# Altium integrated library Linear Technology Power Management Hot Swap Controllers.IntLib: 992 symbols (part 28 of 93)
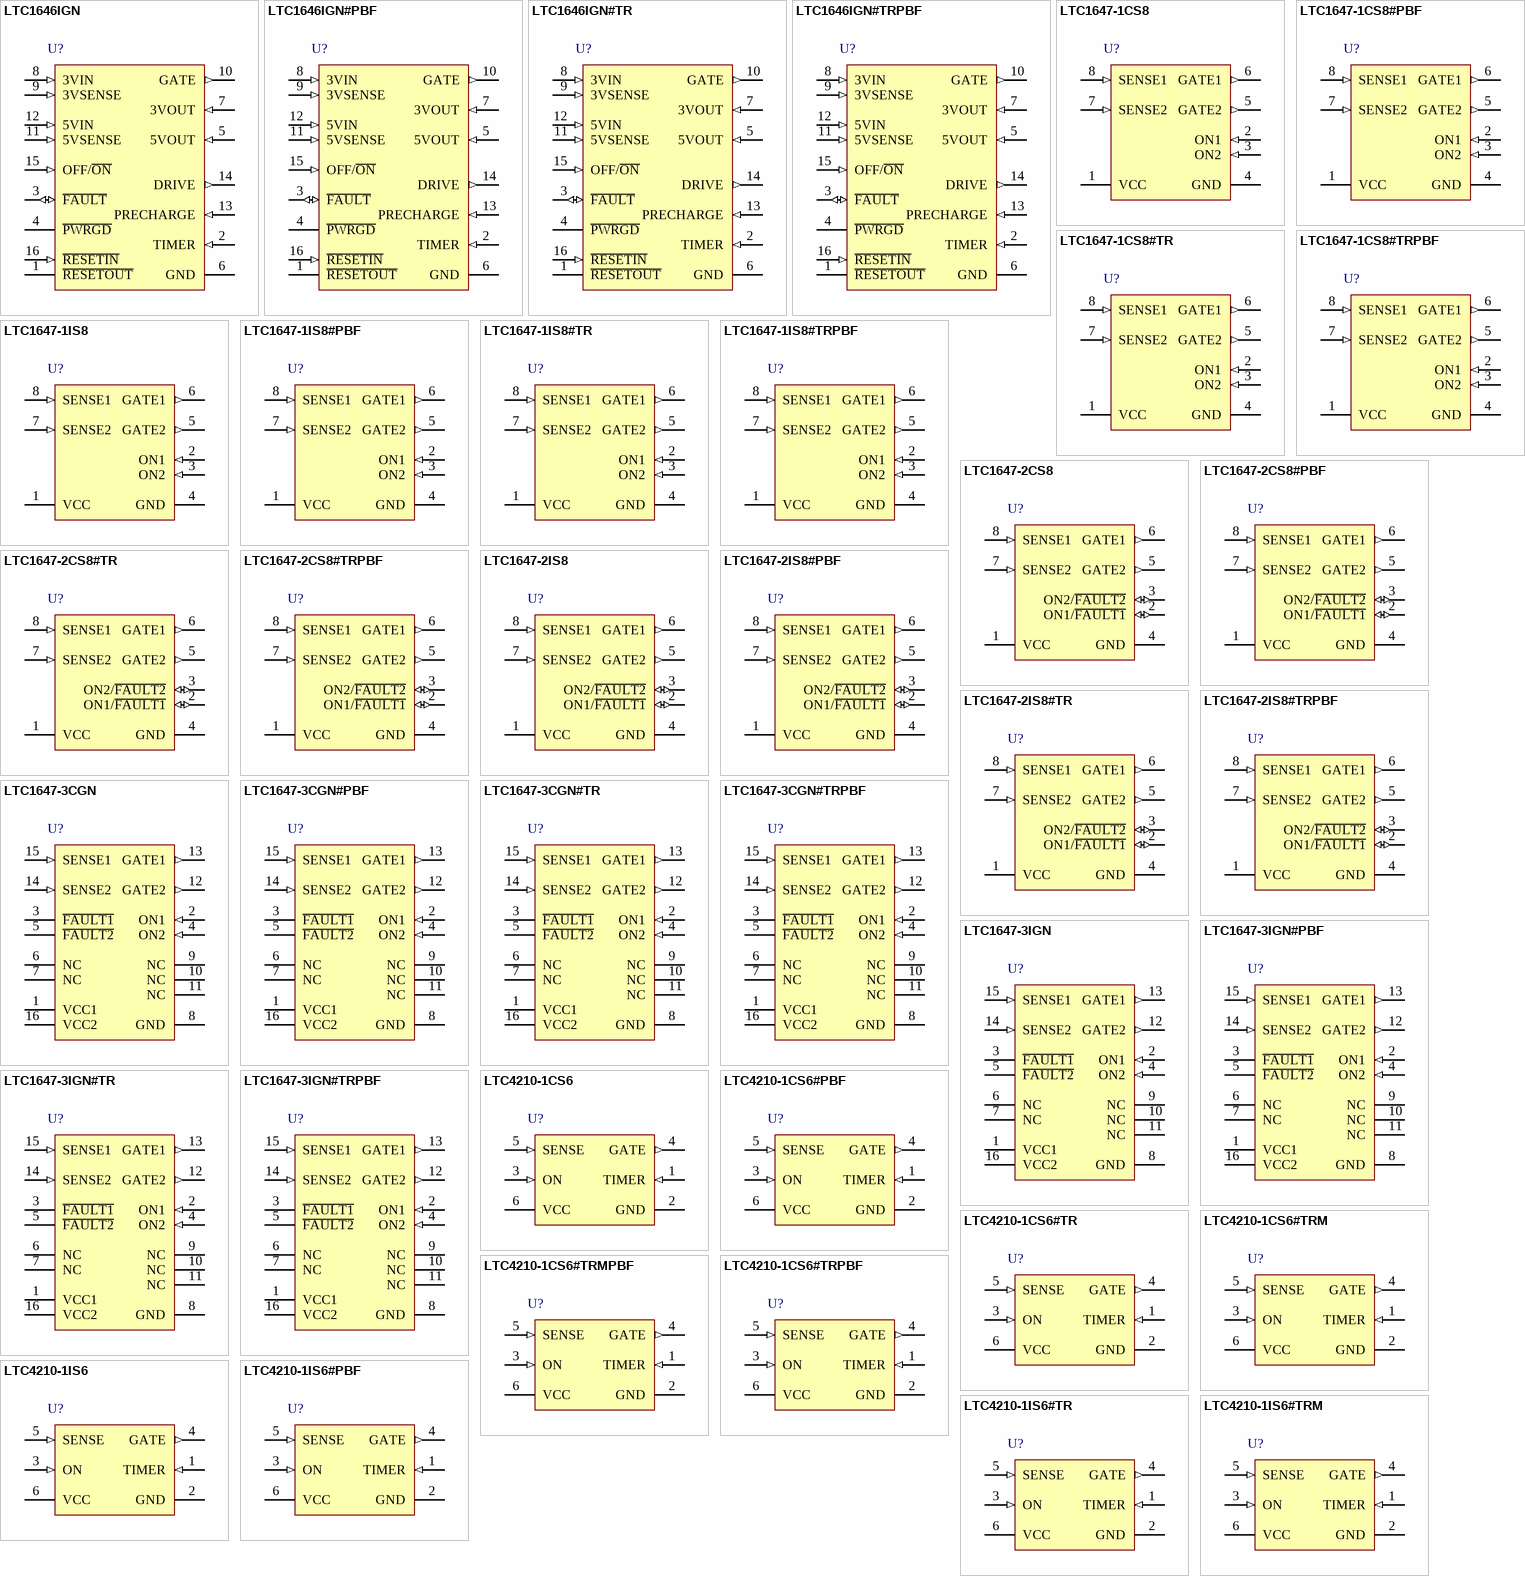
[diagram p64: symbols LTC1646IGN to LTC4210-1IS6#TRM]

## LTC1647-2CS8#TRPBF
designator U?
Dual Hot Swap Controller, 2.7 to 16.5 V Vin, 8-pin SOIC (S8-8), 0 to 70 degC, Pb-Free, Tape and Reel; Manufacturer: Linear Technology; PartNumber: LTC1647-2CS8#TRPBF; Active Limiting: no; Circuit Breaker Accuracy(%): 20; Circuit Breaker Threshold: 50 mV; Circuit Breakers(#): 2; Extended Temp: C, I; Fault: yes; In-Rush Current: Ramp; DatasheetVersion: Rev. A; PackageVersion: Rev. G, 03/2012; PackageReference: S8-8; PackageDescription: 8-Pin Plastic Small Outline (Narrow .150 Inch), Body 4.9 x 3.9 mm, Pitch 1.27 mm; Supplier 1: Digi-Key; Supplier Part Number 1: LTC1647-2CS8#TRPBF-ND; Fast Comparator: no; Foldback: no; Packing: Tape and Reel; Power Good: no; Reset: no; RoHS: TRUE; Vin Range: 2.7 to 16.5 V; Mounting Technology: Surface Mount; ComponentLink1Description: Manufacturer URL; ComponentLink1URL: http://www.linear.com/; ComponentLink2Description: Datasheet; ComponentLink2URL: http://cds.linear.com/docs/en/datasheet/1647fa.pdf; ComponentLink3Description: Package Specification; ComponentLink3URL: http://cds.linear.com/docs/en/packaging/05081610_G_SO8.pdf
footprint LT-S8-8_N (SOIC, 8-Leads, Body 5x4mm, Pitch 1.27mm, IPC Medium Density)
footprint LT-S8-8_L (SOIC, 8-Leads, Body 5x4mm, Pitch 1.27mm, IPC High Density)
footprint LT-S8-8_M (SOIC, 8-Leads, Body 5x4mm, Pitch 1.27mm, IPC Low Density)
pins: 1 VCC (power) "The Common Positive Supply Input for the LTC1647-2. VCC1 and VCC2 are internally connected together.", 2 ON1/~{FAULT1} (io), 3 ON2/~{FAULT2} (io), 4 GND (power) "Chip Ground", 5 GATE2 (out) "Channel 2 N-channel MOSFET Gate Drive Output.", 6 GATE1 (out) "Channel 1 N-channel MOSFET Gate Drive Output.", 7 SENSE2 (in) "Channel 2 Circuit Breaker Current Sense Input.", 8 SENSE1 (in) "Channel 1 Circuit Breaker Current Sense Input."

## LTC1647-2IS8
designator U?
Dual Hot Swap Controller, 2.7 to 16.5 V Vin, 8-pin SOIC (S8-8), -40 to 85 degC; Manufacturer: Linear Technology; PartNumber: LTC1647-2IS8; Active Limiting: no; Circuit Breaker Accuracy(%): 20; Circuit Breaker Threshold: 50 mV; Circuit Breakers(#): 2; Extended Temp: C, I; Fault: yes; In-Rush Current: Ramp; DatasheetVersion: Rev. A; PackageVersion: Rev. G, 03/2012; PackageReference: S8-8; PackageDescription: 8-Pin Plastic Small Outline (Narrow .150 Inch), Body 4.9 x 3.9 mm, Pitch 1.27 mm; Supplier 1: Digi-Key; Supplier Part Number 1: LTC1647-2IS8-ND; Fast Comparator: no; Foldback: no; Power Good: no; Reset: no; RoHS: FALSE; Vin Range: 2.7 to 16.5 V; Mounting Technology: Surface Mount; ComponentLink1Description: Manufacturer URL; ComponentLink1URL: http://www.linear.com/; ComponentLink2Description: Datasheet; ComponentLink2URL: http://cds.linear.com/docs/en/datasheet/1647fa.pdf; ComponentLink3Description: Package Specification; ComponentLink3URL: http://cds.linear.com/docs/en/packaging/05081610_G_SO8.pdf
footprint LT-S8-8_N (SOIC, 8-Leads, Body 5x4mm, Pitch 1.27mm, IPC Medium Density)
footprint LT-S8-8_L (SOIC, 8-Leads, Body 5x4mm, Pitch 1.27mm, IPC High Density)
footprint LT-S8-8_M (SOIC, 8-Leads, Body 5x4mm, Pitch 1.27mm, IPC Low Density)
pins: 1 VCC (power) "The Common Positive Supply Input for the LTC1647-2. VCC1 and VCC2 are internally connected together.", 2 ON1/~{FAULT1} (io), 3 ON2/~{FAULT2} (io), 4 GND (power) "Chip Ground", 5 GATE2 (out) "Channel 2 N-channel MOSFET Gate Drive Output.", 6 GATE1 (out) "Channel 1 N-channel MOSFET Gate Drive Output.", 7 SENSE2 (in) "Channel 2 Circuit Breaker Current Sense Input.", 8 SENSE1 (in) "Channel 1 Circuit Breaker Current Sense Input."

## LTC1647-2IS8#PBF
designator U?
Dual Hot Swap Controller, 2.7 to 16.5 V Vin, 8-pin SOIC (S8-8), -40 to 85 degC, Pb-Free; Manufacturer: Linear Technology; PartNumber: LTC1647-2IS8#PBF; Active Limiting: no; Circuit Breaker Accuracy(%): 20; Circuit Breaker Threshold: 50 mV; Circuit Breakers(#): 2; Extended Temp: C, I; Fault: yes; In-Rush Current: Ramp; DatasheetVersion: Rev. A; PackageVersion: Rev. G, 03/2012; PackageReference: S8-8; PackageDescription: 8-Pin Plastic Small Outline (Narrow .150 Inch), Body 4.9 x 3.9 mm, Pitch 1.27 mm; Supplier 1: Digi-Key; Supplier Part Number 1: LTC1647-2IS8#PBF-ND; Fast Comparator: no; Foldback: no; Power Good: no; Reset: no; RoHS: TRUE; Vin Range: 2.7 to 16.5 V; Mounting Technology: Surface Mount; ComponentLink1Description: Manufacturer URL; ComponentLink1URL: http://www.linear.com/; ComponentLink2Description: Datasheet; ComponentLink2URL: http://cds.linear.com/docs/en/datasheet/1647fa.pdf; ComponentLink3Description: Package Specification; ComponentLink3URL: http://cds.linear.com/docs/en/packaging/05081610_G_SO8.pdf
footprint LT-S8-8_N (SOIC, 8-Leads, Body 5x4mm, Pitch 1.27mm, IPC Medium Density)
footprint LT-S8-8_L (SOIC, 8-Leads, Body 5x4mm, Pitch 1.27mm, IPC High Density)
footprint LT-S8-8_M (SOIC, 8-Leads, Body 5x4mm, Pitch 1.27mm, IPC Low Density)
pins: 1 VCC (power) "The Common Positive Supply Input for the LTC1647-2. VCC1 and VCC2 are internally connected together.", 2 ON1/~{FAULT1} (io), 3 ON2/~{FAULT2} (io), 4 GND (power) "Chip Ground", 5 GATE2 (out) "Channel 2 N-channel MOSFET Gate Drive Output.", 6 GATE1 (out) "Channel 1 N-channel MOSFET Gate Drive Output.", 7 SENSE2 (in) "Channel 2 Circuit Breaker Current Sense Input.", 8 SENSE1 (in) "Channel 1 Circuit Breaker Current Sense Input."

## LTC1647-2IS8#TR
designator U?
Dual Hot Swap Controller, 2.7 to 16.5 V Vin, 8-pin SOIC (S8-8), -40 to 85 degC, Tape and Reel; Manufacturer: Linear Technology; PartNumber: LTC1647-2IS8#TR; Active Limiting: no; Circuit Breaker Accuracy(%): 20; Circuit Breaker Threshold: 50 mV; Circuit Breakers(#): 2; Extended Temp: C, I; Fault: yes; In-Rush Current: Ramp; DatasheetVersion: Rev. A; PackageVersion: Rev. G, 03/2012; PackageReference: S8-8; PackageDescription: 8-Pin Plastic Small Outline (Narrow .150 Inch), Body 4.9 x 3.9 mm, Pitch 1.27 mm; Supplier 1: Digi-Key; Supplier Part Number 1: LTC1647-2IS8#TR-ND; Fast Comparator: no; Foldback: no; Packing: Tape and Reel; Power Good: no; Reset: no; RoHS: FALSE; Vin Range: 2.7 to 16.5 V; Mounting Technology: Surface Mount; ComponentLink1Description: Manufacturer URL; ComponentLink1URL: http://www.linear.com/; ComponentLink2Description: Datasheet; ComponentLink2URL: http://cds.linear.com/docs/en/datasheet/1647fa.pdf; ComponentLink3Description: Package Specification; ComponentLink3URL: http://cds.linear.com/docs/en/packaging/05081610_G_SO8.pdf
footprint LT-S8-8_N (SOIC, 8-Leads, Body 5x4mm, Pitch 1.27mm, IPC Medium Density)
footprint LT-S8-8_L (SOIC, 8-Leads, Body 5x4mm, Pitch 1.27mm, IPC High Density)
footprint LT-S8-8_M (SOIC, 8-Leads, Body 5x4mm, Pitch 1.27mm, IPC Low Density)
pins: 1 VCC (power) "The Common Positive Supply Input for the LTC1647-2. VCC1 and VCC2 are internally connected together.", 2 ON1/~{FAULT1} (io), 3 ON2/~{FAULT2} (io), 4 GND (power) "Chip Ground", 5 GATE2 (out) "Channel 2 N-channel MOSFET Gate Drive Output.", 6 GATE1 (out) "Channel 1 N-channel MOSFET Gate Drive Output.", 7 SENSE2 (in) "Channel 2 Circuit Breaker Current Sense Input.", 8 SENSE1 (in) "Channel 1 Circuit Breaker Current Sense Input."

## LTC1647-2IS8#TRPBF
designator U?
Dual Hot Swap Controller, 2.7 to 16.5 V Vin, 8-pin SOIC (S8-8), -40 to 85 degC, Pb-Free, Tape and Reel; Manufacturer: Linear Technology; PartNumber: LTC1647-2IS8#TRPBF; Active Limiting: no; Circuit Breaker Accuracy(%): 20; Circuit Breaker Threshold: 50 mV; Circuit Breakers(#): 2; Extended Temp: C, I; Fault: yes; In-Rush Current: Ramp; DatasheetVersion: Rev. A; PackageVersion: Rev. G, 03/2012; PackageReference: S8-8; PackageDescription: 8-Pin Plastic Small Outline (Narrow .150 Inch), Body 4.9 x 3.9 mm, Pitch 1.27 mm; Supplier 1: Digi-Key; Supplier Part Number 1: LTC1647-2IS8#TRPBF-ND; Fast Comparator: no; Foldback: no; Packing: Tape and Reel; Power Good: no; Reset: no; RoHS: TRUE; Vin Range: 2.7 to 16.5 V; Mounting Technology: Surface Mount; ComponentLink1Description: Manufacturer URL; ComponentLink1URL: http://www.linear.com/; ComponentLink2Description: Datasheet; ComponentLink2URL: http://cds.linear.com/docs/en/datasheet/1647fa.pdf; ComponentLink3Description: Package Specification; ComponentLink3URL: http://cds.linear.com/docs/en/packaging/05081610_G_SO8.pdf
footprint LT-S8-8_N (SOIC, 8-Leads, Body 5x4mm, Pitch 1.27mm, IPC Medium Density)
footprint LT-S8-8_L (SOIC, 8-Leads, Body 5x4mm, Pitch 1.27mm, IPC High Density)
footprint LT-S8-8_M (SOIC, 8-Leads, Body 5x4mm, Pitch 1.27mm, IPC Low Density)
pins: 1 VCC (power) "The Common Positive Supply Input for the LTC1647-2. VCC1 and VCC2 are internally connected together.", 2 ON1/~{FAULT1} (io), 3 ON2/~{FAULT2} (io), 4 GND (power) "Chip Ground", 5 GATE2 (out) "Channel 2 N-channel MOSFET Gate Drive Output.", 6 GATE1 (out) "Channel 1 N-channel MOSFET Gate Drive Output.", 7 SENSE2 (in) "Channel 2 Circuit Breaker Current Sense Input.", 8 SENSE1 (in) "Channel 1 Circuit Breaker Current Sense Input."

## LTC1647-3CGN
designator U?
Dual Hot Swap Controller, 2.7 to 16.5 V Vin, 16-pin SOP (GN-16), 0 to 70 degC; Manufacturer: Linear Technology; PartNumber: LTC1647-3CGN; Active Limiting: no; Circuit Breaker Accuracy(%): 20; Circuit Breaker Threshold: 50 mV; Circuit Breakers(#): 2; Extended Temp: C, I; Fault: yes; In-Rush Current: Ramp; DatasheetVersion: Rev. A; PackageVersion: Rev. B, 03/2012; PackageReference: GN-16; PackageDescription: 16-Pin Plastic SSOP, Body 4.9 x 3.9 mm, Pitch 0.635 mm; Supplier 1: Digi-Key; Supplier Part Number 1: LTC1647-3CGN-ND; Fast Comparator: no; Foldback: no; Power Good: no; Reset: no; RoHS: FALSE; Vin Range: 2.7 to 16.5 V; Mounting Technology: Surface Mount; ComponentLink1Description: Manufacturer URL; ComponentLink1URL: http://www.linear.com/; ComponentLink2Description: Datasheet; ComponentLink2URL: http://cds.linear.com/docs/en/datasheet/1647fa.pdf; ComponentLink3Description: Package Specification; ComponentLink3URL: http://cds.linear.com/docs/en/packaging/05081641_B_GN16.pdf
footprint LT-GN-16_N (SOP, 16-Leads, Body 5x4mm, Pitch 0.635mm, IPC Medium Density)
footprint LT-GN-16_L (SOP, 16-Leads, Body 5x4mm, Pitch 0.635mm, IPC High Density)
footprint LT-GN-16_M (SOP, 16-Leads, Body 5x4mm, Pitch 0.635mm, IPC Low Density)
pins: 1 VCC1 (power) "Channel 1 Positive Supply Input. The supply range for normal operation is 2.7V to 16.5V. The supply current, ICC1, is typically 1mA. Channel 1’s undervoltage lockout (UVLO) circuit disables GATE 1 until the supply voltag(See Datasheet)", 2 ON1 (in) "Channel 1 ON Input. The threshold at the ON1 pin is set at 1.29V with 70mV hysteresis. If UVLO and the circuit breaker of channel 1 are inactive, a logic high at ON1 enables the 10uA charge pump current source, pulling the (See Datasheet)", 3 ~{FAULT1} (oc) "Channel 1 Open-Drain Fault Status Output.", 4 ON2 (in) "Channel 2 ON Input. See ON1 for functional description.", 5 ~{FAULT2} (oc) "Channel 2 Open-Drain Fault Status Output.", 6 NC "No Connection.", 7 NC "No Connection.", 8 GND (power) "Chip Ground.", 9 NC "No Connection.", 10 NC "No Connection.", 11 NC "No Connection.", 12 GATE2 (out) "Channel 2 N-channel MOSFET Gate Drive Output.", 13 GATE1 (out) "Channel 1 N-channel MOSFET Gate Drive Output.", 14 SENSE2 (in) "Channel 2 Circuit Breaker Current Sense Input. See SENSE 1 for functional description.", 15 SENSE1 (in) "Channel 1 Circuit Breaker Current Sense Input. Load current is monitored by a sense resistor connected between VCC1 and SENSE 1. The circuit breaker trips if the voltage across the sense resistor exceeds 50mV (VCB). To (See Datasheet)", 16 VCC2 (power) "Channel 2 Positive Supply Input. See VCC1 for functional description."

## LTC1647-3CGN#PBF
designator U?
Dual Hot Swap Controller, 2.7 to 16.5 V Vin, 16-pin SOP (GN-16), 0 to 70 degC, Pb-Free; Manufacturer: Linear Technology; PartNumber: LTC1647-3CGN#PBF; Active Limiting: no; Circuit Breaker Accuracy(%): 20; Circuit Breaker Threshold: 50 mV; Circuit Breakers(#): 2; Extended Temp: C, I; Fault: yes; In-Rush Current: Ramp; DatasheetVersion: Rev. A; PackageVersion: Rev. B, 03/2012; PackageReference: GN-16; PackageDescription: 16-Pin Plastic SSOP, Body 4.9 x 3.9 mm, Pitch 0.635 mm; Supplier 1: Digi-Key; Supplier Part Number 1: LTC1647-3CGN#PBF-ND; Supplier 2: Farnell; Supplier Part Number 2: 2295321; Fast Comparator: no; Foldback: no; Power Good: no; Reset: no; RoHS: TRUE; Vin Range: 2.7 to 16.5 V; Mounting Technology: Surface Mount; ComponentLink1Description: Manufacturer URL; ComponentLink1URL: http://www.linear.com/; ComponentLink2Description: Datasheet; ComponentLink2URL: http://cds.linear.com/docs/en/datasheet/1647fa.pdf; ComponentLink3Description: Package Specification; ComponentLink3URL: http://cds.linear.com/docs/en/packaging/05081641_B_GN16.pdf
footprint LT-GN-16_N (SOP, 16-Leads, Body 5x4mm, Pitch 0.635mm, IPC Medium Density)
footprint LT-GN-16_L (SOP, 16-Leads, Body 5x4mm, Pitch 0.635mm, IPC High Density)
footprint LT-GN-16_M (SOP, 16-Leads, Body 5x4mm, Pitch 0.635mm, IPC Low Density)
pins: 1 VCC1 (power) "Channel 1 Positive Supply Input. The supply range for normal operation is 2.7V to 16.5V. The supply current, ICC1, is typically 1mA. Channel 1’s undervoltage lockout (UVLO) circuit disables GATE 1 until the supply voltag(See Datasheet)", 2 ON1 (in) "Channel 1 ON Input. The threshold at the ON1 pin is set at 1.29V with 70mV hysteresis. If UVLO and the circuit breaker of channel 1 are inactive, a logic high at ON1 enables the 10uA charge pump current source, pulling the (See Datasheet)", 3 ~{FAULT1} (oc) "Channel 1 Open-Drain Fault Status Output.", 4 ON2 (in) "Channel 2 ON Input. See ON1 for functional description.", 5 ~{FAULT2} (oc) "Channel 2 Open-Drain Fault Status Output.", 6 NC "No Connection.", 7 NC "No Connection.", 8 GND (power) "Chip Ground.", 9 NC "No Connection.", 10 NC "No Connection.", 11 NC "No Connection.", 12 GATE2 (out) "Channel 2 N-channel MOSFET Gate Drive Output.", 13 GATE1 (out) "Channel 1 N-channel MOSFET Gate Drive Output.", 14 SENSE2 (in) "Channel 2 Circuit Breaker Current Sense Input. See SENSE 1 for functional description.", 15 SENSE1 (in) "Channel 1 Circuit Breaker Current Sense Input. Load current is monitored by a sense resistor connected between VCC1 and SENSE 1. The circuit breaker trips if the voltage across the sense resistor exceeds 50mV (VCB). To (See Datasheet)", 16 VCC2 (power) "Channel 2 Positive Supply Input. See VCC1 for functional description."

## LTC1647-3CGN#TR
designator U?
Dual Hot Swap Controller, 2.7 to 16.5 V Vin, 16-pin SOP (GN-16), 0 to 70 degC, Tape and Reel; Manufacturer: Linear Technology; PartNumber: LTC1647-3CGN#TR; Active Limiting: no; Circuit Breaker Accuracy(%): 20; Circuit Breaker Threshold: 50 mV; Circuit Breakers(#): 2; Extended Temp: C, I; Fault: yes; In-Rush Current: Ramp; DatasheetVersion: Rev. A; PackageVersion: Rev. B, 03/2012; PackageReference: GN-16; PackageDescription: 16-Pin Plastic SSOP, Body 4.9 x 3.9 mm, Pitch 0.635 mm; Supplier 1: Digi-Key; Supplier Part Number 1: LTC1647-3CGN#TR-ND; Fast Comparator: no; Foldback: no; Packing: Tape and Reel; Power Good: no; Reset: no; RoHS: FALSE; Vin Range: 2.7 to 16.5 V; Mounting Technology: Surface Mount; ComponentLink1Description: Manufacturer URL; ComponentLink1URL: http://www.linear.com/; ComponentLink2Description: Datasheet; ComponentLink2URL: http://cds.linear.com/docs/en/datasheet/1647fa.pdf; ComponentLink3Description: Package Specification; ComponentLink3URL: http://cds.linear.com/docs/en/packaging/05081641_B_GN16.pdf
footprint LT-GN-16_N (SOP, 16-Leads, Body 5x4mm, Pitch 0.635mm, IPC Medium Density)
footprint LT-GN-16_L (SOP, 16-Leads, Body 5x4mm, Pitch 0.635mm, IPC High Density)
footprint LT-GN-16_M (SOP, 16-Leads, Body 5x4mm, Pitch 0.635mm, IPC Low Density)
pins: 1 VCC1 (power) "Channel 1 Positive Supply Input. The supply range for normal operation is 2.7V to 16.5V. The supply current, ICC1, is typically 1mA. Channel 1’s undervoltage lockout (UVLO) circuit disables GATE 1 until the supply voltag(See Datasheet)", 2 ON1 (in) "Channel 1 ON Input. The threshold at the ON1 pin is set at 1.29V with 70mV hysteresis. If UVLO and the circuit breaker of channel 1 are inactive, a logic high at ON1 enables the 10uA charge pump current source, pulling the (See Datasheet)", 3 ~{FAULT1} (oc) "Channel 1 Open-Drain Fault Status Output.", 4 ON2 (in) "Channel 2 ON Input. See ON1 for functional description.", 5 ~{FAULT2} (oc) "Channel 2 Open-Drain Fault Status Output.", 6 NC "No Connection.", 7 NC "No Connection.", 8 GND (power) "Chip Ground.", 9 NC "No Connection.", 10 NC "No Connection.", 11 NC "No Connection.", 12 GATE2 (out) "Channel 2 N-channel MOSFET Gate Drive Output.", 13 GATE1 (out) "Channel 1 N-channel MOSFET Gate Drive Output.", 14 SENSE2 (in) "Channel 2 Circuit Breaker Current Sense Input. See SENSE 1 for functional description.", 15 SENSE1 (in) "Channel 1 Circuit Breaker Current Sense Input. Load current is monitored by a sense resistor connected between VCC1 and SENSE 1. The circuit breaker trips if the voltage across the sense resistor exceeds 50mV (VCB). To (See Datasheet)", 16 VCC2 (power) "Channel 2 Positive Supply Input. See VCC1 for functional description."

## LTC1647-3CGN#TRPBF
designator U?
Dual Hot Swap Controller, 2.7 to 16.5 V Vin, 16-pin SOP (GN-16), 0 to 70 degC, Pb-Free, Tape and Reel; Manufacturer: Linear Technology; PartNumber: LTC1647-3CGN#TRPBF; Active Limiting: no; Circuit Breaker Accuracy(%): 20; Circuit Breaker Threshold: 50 mV; Circuit Breakers(#): 2; Extended Temp: C, I; Fault: yes; In-Rush Current: Ramp; DatasheetVersion: Rev. A; PackageVersion: Rev. B, 03/2012; PackageReference: GN-16; PackageDescription: 16-Pin Plastic SSOP, Body 4.9 x 3.9 mm, Pitch 0.635 mm; Supplier 1: Digi-Key; Supplier Part Number 1: LTC1647-3CGN#TRPBF-ND; Fast Comparator: no; Foldback: no; Packing: Tape and Reel; Power Good: no; Reset: no; RoHS: TRUE; Vin Range: 2.7 to 16.5 V; Mounting Technology: Surface Mount; ComponentLink1Description: Manufacturer URL; ComponentLink1URL: http://www.linear.com/; ComponentLink2Description: Datasheet; ComponentLink2URL: http://cds.linear.com/docs/en/datasheet/1647fa.pdf; ComponentLink3Description: Package Specification; ComponentLink3URL: http://cds.linear.com/docs/en/packaging/05081641_B_GN16.pdf
footprint LT-GN-16_N (SOP, 16-Leads, Body 5x4mm, Pitch 0.635mm, IPC Medium Density)
footprint LT-GN-16_L (SOP, 16-Leads, Body 5x4mm, Pitch 0.635mm, IPC High Density)
footprint LT-GN-16_M (SOP, 16-Leads, Body 5x4mm, Pitch 0.635mm, IPC Low Density)
pins: 1 VCC1 (power) "Channel 1 Positive Supply Input. The supply range for normal operation is 2.7V to 16.5V. The supply current, ICC1, is typically 1mA. Channel 1’s undervoltage lockout (UVLO) circuit disables GATE 1 until the supply voltag(See Datasheet)", 2 ON1 (in) "Channel 1 ON Input. The threshold at the ON1 pin is set at 1.29V with 70mV hysteresis. If UVLO and the circuit breaker of channel 1 are inactive, a logic high at ON1 enables the 10uA charge pump current source, pulling the (See Datasheet)", 3 ~{FAULT1} (oc) "Channel 1 Open-Drain Fault Status Output.", 4 ON2 (in) "Channel 2 ON Input. See ON1 for functional description.", 5 ~{FAULT2} (oc) "Channel 2 Open-Drain Fault Status Output.", 6 NC "No Connection.", 7 NC "No Connection.", 8 GND (power) "Chip Ground.", 9 NC "No Connection.", 10 NC "No Connection.", 11 NC "No Connection.", 12 GATE2 (out) "Channel 2 N-channel MOSFET Gate Drive Output.", 13 GATE1 (out) "Channel 1 N-channel MOSFET Gate Drive Output.", 14 SENSE2 (in) "Channel 2 Circuit Breaker Current Sense Input. See SENSE 1 for functional description.", 15 SENSE1 (in) "Channel 1 Circuit Breaker Current Sense Input. Load current is monitored by a sense resistor connected between VCC1 and SENSE 1. The circuit breaker trips if the voltage across the sense resistor exceeds 50mV (VCB). To (See Datasheet)", 16 VCC2 (power) "Channel 2 Positive Supply Input. See VCC1 for functional description."

## LTC1647-3IGN
designator U?
Dual Hot Swap Controller, 2.7 to 16.5 V Vin, 16-pin SOP (GN-16), -40 to 85 degC; Manufacturer: Linear Technology; PartNumber: LTC1647-3IGN; Active Limiting: no; Circuit Breaker Accuracy(%): 20; Circuit Breaker Threshold: 50 mV; Circuit Breakers(#): 2; Extended Temp: C, I; Fault: yes; In-Rush Current: Ramp; DatasheetVersion: Rev. A; PackageVersion: Rev. B, 03/2012; PackageReference: GN-16; PackageDescription: 16-Pin Plastic SSOP, Body 4.9 x 3.9 mm, Pitch 0.635 mm; Supplier 1: Digi-Key; Supplier Part Number 1: LTC1647-3IGN-ND; Fast Comparator: no; Foldback: no; Power Good: no; Reset: no; RoHS: FALSE; Vin Range: 2.7 to 16.5 V; Mounting Technology: Surface Mount; ComponentLink1Description: Manufacturer URL; ComponentLink1URL: http://www.linear.com/; ComponentLink2Description: Datasheet; ComponentLink2URL: http://cds.linear.com/docs/en/datasheet/1647fa.pdf; ComponentLink3Description: Package Specification; ComponentLink3URL: http://cds.linear.com/docs/en/packaging/05081641_B_GN16.pdf
footprint LT-GN-16_N (SOP, 16-Leads, Body 5x4mm, Pitch 0.635mm, IPC Medium Density)
footprint LT-GN-16_L (SOP, 16-Leads, Body 5x4mm, Pitch 0.635mm, IPC High Density)
footprint LT-GN-16_M (SOP, 16-Leads, Body 5x4mm, Pitch 0.635mm, IPC Low Density)
pins: 1 VCC1 (power) "Channel 1 Positive Supply Input. The supply range for normal operation is 2.7V to 16.5V. The supply current, ICC1, is typically 1mA. Channel 1’s undervoltage lockout (UVLO) circuit disables GATE 1 until the supply voltag(See Datasheet)", 2 ON1 (in) "Channel 1 ON Input. The threshold at the ON1 pin is set at 1.29V with 70mV hysteresis. If UVLO and the circuit breaker of channel 1 are inactive, a logic high at ON1 enables the 10uA charge pump current source, pulling the (See Datasheet)", 3 ~{FAULT1} (oc) "Channel 1 Open-Drain Fault Status Output.", 4 ON2 (in) "Channel 2 ON Input. See ON1 for functional description.", 5 ~{FAULT2} (oc) "Channel 2 Open-Drain Fault Status Output.", 6 NC "No Connection.", 7 NC "No Connection.", 8 GND (power) "Chip Ground.", 9 NC "No Connection.", 10 NC "No Connection.", 11 NC "No Connection.", 12 GATE2 (out) "Channel 2 N-channel MOSFET Gate Drive Output.", 13 GATE1 (out) "Channel 1 N-channel MOSFET Gate Drive Output.", 14 SENSE2 (in) "Channel 2 Circuit Breaker Current Sense Input. See SENSE 1 for functional description.", 15 SENSE1 (in) "Channel 1 Circuit Breaker Current Sense Input. Load current is monitored by a sense resistor connected between VCC1 and SENSE 1. The circuit breaker trips if the voltage across the sense resistor exceeds 50mV (VCB). To (See Datasheet)", 16 VCC2 (power) "Channel 2 Positive Supply Input. See VCC1 for functional description."

## LTC1647-3IGN#PBF
designator U?
Dual Hot Swap Controller, 2.7 to 16.5 V Vin, 16-pin SOP (GN-16), -40 to 85 degC, Pb-Free; Manufacturer: Linear Technology; PartNumber: LTC1647-3IGN#PBF; Active Limiting: no; Circuit Breaker Accuracy(%): 20; Circuit Breaker Threshold: 50 mV; Circuit Breakers(#): 2; Extended Temp: C, I; Fault: yes; In-Rush Current: Ramp; DatasheetVersion: Rev. A; PackageVersion: Rev. B, 03/2012; PackageReference: GN-16; PackageDescription: 16-Pin Plastic SSOP, Body 4.9 x 3.9 mm, Pitch 0.635 mm; Supplier 1: Digi-Key; Supplier Part Number 1: LTC1647-3IGN#PBF-ND; Fast Comparator: no; Foldback: no; Power Good: no; Reset: no; RoHS: TRUE; Vin Range: 2.7 to 16.5 V; Mounting Technology: Surface Mount; ComponentLink1Description: Manufacturer URL; ComponentLink1URL: http://www.linear.com/; ComponentLink2Description: Datasheet; ComponentLink2URL: http://cds.linear.com/docs/en/datasheet/1647fa.pdf; ComponentLink3Description: Package Specification; ComponentLink3URL: http://cds.linear.com/docs/en/packaging/05081641_B_GN16.pdf
footprint LT-GN-16_N (SOP, 16-Leads, Body 5x4mm, Pitch 0.635mm, IPC Medium Density)
footprint LT-GN-16_L (SOP, 16-Leads, Body 5x4mm, Pitch 0.635mm, IPC High Density)
footprint LT-GN-16_M (SOP, 16-Leads, Body 5x4mm, Pitch 0.635mm, IPC Low Density)
pins: 1 VCC1 (power) "Channel 1 Positive Supply Input. The supply range for normal operation is 2.7V to 16.5V. The supply current, ICC1, is typically 1mA. Channel 1’s undervoltage lockout (UVLO) circuit disables GATE 1 until the supply voltag(See Datasheet)", 2 ON1 (in) "Channel 1 ON Input. The threshold at the ON1 pin is set at 1.29V with 70mV hysteresis. If UVLO and the circuit breaker of channel 1 are inactive, a logic high at ON1 enables the 10uA charge pump current source, pulling the (See Datasheet)", 3 ~{FAULT1} (oc) "Channel 1 Open-Drain Fault Status Output.", 4 ON2 (in) "Channel 2 ON Input. See ON1 for functional description.", 5 ~{FAULT2} (oc) "Channel 2 Open-Drain Fault Status Output.", 6 NC "No Connection.", 7 NC "No Connection.", 8 GND (power) "Chip Ground.", 9 NC "No Connection.", 10 NC "No Connection.", 11 NC "No Connection.", 12 GATE2 (out) "Channel 2 N-channel MOSFET Gate Drive Output.", 13 GATE1 (out) "Channel 1 N-channel MOSFET Gate Drive Output.", 14 SENSE2 (in) "Channel 2 Circuit Breaker Current Sense Input. See SENSE 1 for functional description.", 15 SENSE1 (in) "Channel 1 Circuit Breaker Current Sense Input. Load current is monitored by a sense resistor connected between VCC1 and SENSE 1. The circuit breaker trips if the voltage across the sense resistor exceeds 50mV (VCB). To (See Datasheet)", 16 VCC2 (power) "Channel 2 Positive Supply Input. See VCC1 for functional description."

## LTC1647-3IGN#TR
designator U?
Dual Hot Swap Controller, 2.7 to 16.5 V Vin, 16-pin SOP (GN-16), -40 to 85 degC, Tape and Reel; Manufacturer: Linear Technology; PartNumber: LTC1647-3IGN#TR; Active Limiting: no; Circuit Breaker Accuracy(%): 20; Circuit Breaker Threshold: 50 mV; Circuit Breakers(#): 2; Extended Temp: C, I; Fault: yes; In-Rush Current: Ramp; DatasheetVersion: Rev. A; PackageVersion: Rev. B, 03/2012; PackageReference: GN-16; PackageDescription: 16-Pin Plastic SSOP, Body 4.9 x 3.9 mm, Pitch 0.635 mm; Supplier 1: Digi-Key; Supplier Part Number 1: LTC1647-3IGN#TR-ND; Fast Comparator: no; Foldback: no; Packing: Tape and Reel; Power Good: no; Reset: no; RoHS: FALSE; Vin Range: 2.7 to 16.5 V; Mounting Technology: Surface Mount; ComponentLink1Description: Manufacturer URL; ComponentLink1URL: http://www.linear.com/; ComponentLink2Description: Datasheet; ComponentLink2URL: http://cds.linear.com/docs/en/datasheet/1647fa.pdf; ComponentLink3Description: Package Specification; ComponentLink3URL: http://cds.linear.com/docs/en/packaging/05081641_B_GN16.pdf
footprint LT-GN-16_N (SOP, 16-Leads, Body 5x4mm, Pitch 0.635mm, IPC Medium Density)
footprint LT-GN-16_L (SOP, 16-Leads, Body 5x4mm, Pitch 0.635mm, IPC High Density)
footprint LT-GN-16_M (SOP, 16-Leads, Body 5x4mm, Pitch 0.635mm, IPC Low Density)
pins: 1 VCC1 (power) "Channel 1 Positive Supply Input. The supply range for normal operation is 2.7V to 16.5V. The supply current, ICC1, is typically 1mA. Channel 1’s undervoltage lockout (UVLO) circuit disables GATE 1 until the supply voltag(See Datasheet)", 2 ON1 (in) "Channel 1 ON Input. The threshold at the ON1 pin is set at 1.29V with 70mV hysteresis. If UVLO and the circuit breaker of channel 1 are inactive, a logic high at ON1 enables the 10uA charge pump current source, pulling the (See Datasheet)", 3 ~{FAULT1} (oc) "Channel 1 Open-Drain Fault Status Output.", 4 ON2 (in) "Channel 2 ON Input. See ON1 for functional description.", 5 ~{FAULT2} (oc) "Channel 2 Open-Drain Fault Status Output.", 6 NC "No Connection.", 7 NC "No Connection.", 8 GND (power) "Chip Ground.", 9 NC "No Connection.", 10 NC "No Connection.", 11 NC "No Connection.", 12 GATE2 (out) "Channel 2 N-channel MOSFET Gate Drive Output.", 13 GATE1 (out) "Channel 1 N-channel MOSFET Gate Drive Output.", 14 SENSE2 (in) "Channel 2 Circuit Breaker Current Sense Input. See SENSE 1 for functional description.", 15 SENSE1 (in) "Channel 1 Circuit Breaker Current Sense Input. Load current is monitored by a sense resistor connected between VCC1 and SENSE 1. The circuit breaker trips if the voltage across the sense resistor exceeds 50mV (VCB). To (See Datasheet)", 16 VCC2 (power) "Channel 2 Positive Supply Input. See VCC1 for functional description."

## LTC1647-3IGN#TRPBF
designator U?
Dual Hot Swap Controller, 2.7 to 16.5 V Vin, 16-pin SOP (GN-16), -40 to 85 degC, Pb-Free, Tape and Reel; Manufacturer: Linear Technology; PartNumber: LTC1647-3IGN#TRPBF; Active Limiting: no; Circuit Breaker Accuracy(%): 20; Circuit Breaker Threshold: 50 mV; Circuit Breakers(#): 2; Extended Temp: C, I; Fault: yes; In-Rush Current: Ramp; DatasheetVersion: Rev. A; PackageVersion: Rev. B, 03/2012; PackageReference: GN-16; PackageDescription: 16-Pin Plastic SSOP, Body 4.9 x 3.9 mm, Pitch 0.635 mm; Supplier 1: Digi-Key; Supplier Part Number 1: LTC1647-3IGN#TRPBF-ND; Fast Comparator: no; Foldback: no; Packing: Tape and Reel; Power Good: no; Reset: no; RoHS: TRUE; Vin Range: 2.7 to 16.5 V; Mounting Technology: Surface Mount; ComponentLink1Description: Manufacturer URL; ComponentLink1URL: http://www.linear.com/; ComponentLink2Description: Datasheet; ComponentLink2URL: http://cds.linear.com/docs/en/datasheet/1647fa.pdf; ComponentLink3Description: Package Specification; ComponentLink3URL: http://cds.linear.com/docs/en/packaging/05081641_B_GN16.pdf
footprint LT-GN-16_N (SOP, 16-Leads, Body 5x4mm, Pitch 0.635mm, IPC Medium Density)
footprint LT-GN-16_L (SOP, 16-Leads, Body 5x4mm, Pitch 0.635mm, IPC High Density)
footprint LT-GN-16_M (SOP, 16-Leads, Body 5x4mm, Pitch 0.635mm, IPC Low Density)
pins: 1 VCC1 (power) "Channel 1 Positive Supply Input. The supply range for normal operation is 2.7V to 16.5V. The supply current, ICC1, is typically 1mA. Channel 1’s undervoltage lockout (UVLO) circuit disables GATE 1 until the supply voltag(See Datasheet)", 2 ON1 (in) "Channel 1 ON Input. The threshold at the ON1 pin is set at 1.29V with 70mV hysteresis. If UVLO and the circuit breaker of channel 1 are inactive, a logic high at ON1 enables the 10uA charge pump current source, pulling the (See Datasheet)", 3 ~{FAULT1} (oc) "Channel 1 Open-Drain Fault Status Output.", 4 ON2 (in) "Channel 2 ON Input. See ON1 for functional description.", 5 ~{FAULT2} (oc) "Channel 2 Open-Drain Fault Status Output.", 6 NC "No Connection.", 7 NC "No Connection.", 8 GND (power) "Chip Ground.", 9 NC "No Connection.", 10 NC "No Connection.", 11 NC "No Connection.", 12 GATE2 (out) "Channel 2 N-channel MOSFET Gate Drive Output.", 13 GATE1 (out) "Channel 1 N-channel MOSFET Gate Drive Output.", 14 SENSE2 (in) "Channel 2 Circuit Breaker Current Sense Input. See SENSE 1 for functional description.", 15 SENSE1 (in) "Channel 1 Circuit Breaker Current Sense Input. Load current is monitored by a sense resistor connected between VCC1 and SENSE 1. The circuit breaker trips if the voltage across the sense resistor exceeds 50mV (VCB). To (See Datasheet)", 16 VCC2 (power) "Channel 2 Positive Supply Input. See VCC1 for functional description."

## LTC4210-1CS6
designator U?
Hot Swap Controller, 2.7 to 16.5 V Vin, 6-pin SOT23 (S6-6), 0 to 70 degC; Manufacturer: Linear Technology; PartNumber: LTC4210-1CS6; Active Limiting: yes; Circuit Breaker Accuracy(%): 12; Circuit Breaker Threshold: 50 mV; Circuit Breakers(#): 1; Extended Temp: C, I; Fast Comparator: no; In-Rush Current: Active; PackageVersion: Jun-10; PackageReference: S6-6; PackageDescription: 6-Pin Plastic TSOT-23, Body 2.9 x 1.63 mm, Pitch 0.95 mm; Fault: no; Foldback: no; Power Good: no; Reset: no; RoHS: FALSE; Vin Range: 2.7 to 16.5 V; Mounting Technology: Surface Mount; Code_JEDEC: MO-193; ComponentLink1Description: Manufacturer URL; ComponentLink1URL: http://www.linear.com/; ComponentLink2Description: Datasheet; ComponentLink2URL: http://cds.linear.com/docs/en/datasheet/421012f.pdf; ComponentLink3Description: Package Specification; ComponentLink3URL: http://cds.linear.com/docs/en/packaging/SOT_6_05-08-1636.pdf
footprint LT-S6-6-TSOT-23_N (SOT23, 6-Leads, Body 2.9x1.75mm, Pitch 0.95mm, IPC Medium Density)
footprint LT-S6-6-TSOT-23_L (SOT23, 6-Leads, Body 2.9x1.75mm, Pitch 0.95mm, IPC High Density)
footprint LT-S6-6-TSOT-23_M (SOT23, 6-Leads, Body 2.9x1.75mm, Pitch 0.95mm, IPC Low Density)
pins: 1 TIMER (in) "Timer Input Pin. An external capacitor CTIMER sets a 272.9ms/µF initial timing delay and a 21.7ms/µF circuit breaker delay. (See Datasheet)", 2 GND (power) "GND (Pin 2): Ground Pin.", 3 ON (in) "ON (Pin 3): ON Input Pin. The ON pin comparator has a low-to-high threshold of 1.3V with 80mV hysteresis and a glitch filter. When the ON pin is low, the LTC4210 is reset. When the ON pin goes high, the GATE turns on after (See Datasheet)", 4 GATE (out) "GATE Output Pin. This pin is the high side gate drive of an external N-channel MOSFET. An internal charge pump provides a 10µA pull-up current with Zener clamps to VCC and ground. (See Datasheet)", 5 SENSE (in) "SENSE (Pin 5): Current Limit Sense Input Pin. A sense resistor between the VCC and SENSE pins sets the analog current limit. In overload, the EA controls the external MOSFET gate to maintain the SENSE pin voltage at 50mV (See Datasheet)", 6 VCC (power) "Positive Supply Input Pin. The operating supply voltage range is between 2.7V to 7V. An undervoltage lockout (UVLO) circuit with a glitch filter resets the LTC4210 when a low supply voltage is detected. (See Datasheet)"

## LTC4210-1CS6#PBF
designator U?
Hot Swap Controller, 2.7 to 16.5 V Vin, 6-pin SOT23 (S6-6), 0 to 70 degC, Pb-Free; Manufacturer: Linear Technology; PartNumber: LTC4210-1CS6#PBF; Active Limiting: yes; Circuit Breaker Accuracy(%): 12; Circuit Breaker Threshold: 50 mV; Circuit Breakers(#): 1; Extended Temp: C, I; Fast Comparator: no; In-Rush Current: Active; PackageVersion: Jun-10; PackageReference: S6-6; PackageDescription: 6-Pin Plastic TSOT-23, Body 2.9 x 1.63 mm, Pitch 0.95 mm; Supplier 1: Farnell; Supplier Part Number 1: 2115921; Supplier 2: Farnell; Supplier Part Number 2: 1531690; Supplier 3: Newark; Supplier Part Number 3: 66M7823; Fault: no; Foldback: no; Power Good: no; Reset: no; RoHS: TRUE; Vin Range: 2.7 to 16.5 V; Mounting Technology: Surface Mount; Code_JEDEC: MO-193; ComponentLink1Description: Manufacturer URL; ComponentLink1URL: http://www.linear.com/; ComponentLink2Description: Datasheet; ComponentLink2URL: http://cds.linear.com/docs/en/datasheet/421012f.pdf; ComponentLink3Description: Package Specification; ComponentLink3URL: http://cds.linear.com/docs/en/packaging/SOT_6_05-08-1636.pdf
footprint LT-S6-6-TSOT-23_N (SOT23, 6-Leads, Body 2.9x1.75mm, Pitch 0.95mm, IPC Medium Density)
footprint LT-S6-6-TSOT-23_L (SOT23, 6-Leads, Body 2.9x1.75mm, Pitch 0.95mm, IPC High Density)
footprint LT-S6-6-TSOT-23_M (SOT23, 6-Leads, Body 2.9x1.75mm, Pitch 0.95mm, IPC Low Density)
pins: 1 TIMER (in) "Timer Input Pin. An external capacitor CTIMER sets a 272.9ms/µF initial timing delay and a 21.7ms/µF circuit breaker delay. (See Datasheet)", 2 GND (power) "GND (Pin 2): Ground Pin.", 3 ON (in) "ON (Pin 3): ON Input Pin. The ON pin comparator has a low-to-high threshold of 1.3V with 80mV hysteresis and a glitch filter. When the ON pin is low, the LTC4210 is reset. When the ON pin goes high, the GATE turns on after (See Datasheet)", 4 GATE (out) "GATE Output Pin. This pin is the high side gate drive of an external N-channel MOSFET. An internal charge pump provides a 10µA pull-up current with Zener clamps to VCC and ground. (See Datasheet)", 5 SENSE (in) "SENSE (Pin 5): Current Limit Sense Input Pin. A sense resistor between the VCC and SENSE pins sets the analog current limit. In overload, the EA controls the external MOSFET gate to maintain the SENSE pin voltage at 50mV (See Datasheet)", 6 VCC (power) "Positive Supply Input Pin. The operating supply voltage range is between 2.7V to 7V. An undervoltage lockout (UVLO) circuit with a glitch filter resets the LTC4210 when a low supply voltage is detected. (See Datasheet)"

## LTC4210-1CS6#TR
designator U?
Hot Swap Controller, 2.7 to 16.5 V Vin, 6-pin SOT23 (S6-6), 0 to 70 degC, Tape and Reel; Manufacturer: Linear Technology; PartNumber: LTC4210-1CS6#TR; Active Limiting: yes; Circuit Breaker Accuracy(%): 12; Circuit Breaker Threshold: 50 mV; Circuit Breakers(#): 1; Extended Temp: C, I; Fast Comparator: no; In-Rush Current: Active; PackageVersion: Jun-10; PackageReference: S6-6; PackageDescription: 6-Pin Plastic TSOT-23, Body 2.9 x 1.63 mm, Pitch 0.95 mm; Supplier 1: Digi-Key; Supplier Part Number 1: LTC4210-1CS6#TR-ND; Fault: no; Foldback: no; Packing: Tape and Reel; Power Good: no; Reset: no; RoHS: FALSE; Vin Range: 2.7 to 16.5 V; Mounting Technology: Surface Mount; Code_JEDEC: MO-193; ComponentLink1Description: Manufacturer URL; ComponentLink1URL: http://www.linear.com/; ComponentLink2Description: Datasheet; ComponentLink2URL: http://cds.linear.com/docs/en/datasheet/421012f.pdf; ComponentLink3Description: Package Specification; ComponentLink3URL: http://cds.linear.com/docs/en/packaging/SOT_6_05-08-1636.pdf
footprint LT-S6-6-TSOT-23_N (SOT23, 6-Leads, Body 2.9x1.75mm, Pitch 0.95mm, IPC Medium Density)
footprint LT-S6-6-TSOT-23_L (SOT23, 6-Leads, Body 2.9x1.75mm, Pitch 0.95mm, IPC High Density)
footprint LT-S6-6-TSOT-23_M (SOT23, 6-Leads, Body 2.9x1.75mm, Pitch 0.95mm, IPC Low Density)
pins: 1 TIMER (in) "Timer Input Pin. An external capacitor CTIMER sets a 272.9ms/µF initial timing delay and a 21.7ms/µF circuit breaker delay. (See Datasheet)", 2 GND (power) "GND (Pin 2): Ground Pin.", 3 ON (in) "ON (Pin 3): ON Input Pin. The ON pin comparator has a low-to-high threshold of 1.3V with 80mV hysteresis and a glitch filter. When the ON pin is low, the LTC4210 is reset. When the ON pin goes high, the GATE turns on after (See Datasheet)", 4 GATE (out) "GATE Output Pin. This pin is the high side gate drive of an external N-channel MOSFET. An internal charge pump provides a 10µA pull-up current with Zener clamps to VCC and ground. (See Datasheet)", 5 SENSE (in) "SENSE (Pin 5): Current Limit Sense Input Pin. A sense resistor between the VCC and SENSE pins sets the analog current limit. In overload, the EA controls the external MOSFET gate to maintain the SENSE pin voltage at 50mV (See Datasheet)", 6 VCC (power) "Positive Supply Input Pin. The operating supply voltage range is between 2.7V to 7V. An undervoltage lockout (UVLO) circuit with a glitch filter resets the LTC4210 when a low supply voltage is detected. (See Datasheet)"

## LTC4210-1CS6#TRM
designator U?
Hot Swap Controller, 2.7 to 16.5 V Vin, 6-pin SOT23 (S6-6), 0 to 70 degC, Mini Tape and Reel; Manufacturer: Linear Technology; PartNumber: LTC4210-1CS6#TRM; Active Limiting: yes; Circuit Breaker Accuracy(%): 12; Circuit Breaker Threshold: 50 mV; Circuit Breakers(#): 1; Extended Temp: C, I; Fast Comparator: no; In-Rush Current: Active; PackageVersion: Jun-10; PackageReference: S6-6; PackageDescription: 6-Pin Plastic TSOT-23, Body 2.9 x 1.63 mm, Pitch 0.95 mm; Supplier 1: Digi-Key; Supplier Part Number 1: LTC4210-1CS6#TRMTR-ND; Supplier 2: Digi-Key; Supplier Part Number 2: LTC4210-1CS6#TRMCT-ND; Fault: no; Foldback: no; Packing: Mini Tape and Reel; Power Good: no; Reset: no; RoHS: FALSE; Vin Range: 2.7 to 16.5 V; Mounting Technology: Surface Mount; Code_JEDEC: MO-193; ComponentLink1Description: Manufacturer URL; ComponentLink1URL: http://www.linear.com/; ComponentLink2Description: Datasheet; ComponentLink2URL: http://cds.linear.com/docs/en/datasheet/421012f.pdf; ComponentLink3Description: Package Specification; ComponentLink3URL: http://cds.linear.com/docs/en/packaging/SOT_6_05-08-1636.pdf
footprint LT-S6-6-TSOT-23_N (SOT23, 6-Leads, Body 2.9x1.75mm, Pitch 0.95mm, IPC Medium Density)
footprint LT-S6-6-TSOT-23_L (SOT23, 6-Leads, Body 2.9x1.75mm, Pitch 0.95mm, IPC High Density)
footprint LT-S6-6-TSOT-23_M (SOT23, 6-Leads, Body 2.9x1.75mm, Pitch 0.95mm, IPC Low Density)
pins: 1 TIMER (in) "Timer Input Pin. An external capacitor CTIMER sets a 272.9ms/µF initial timing delay and a 21.7ms/µF circuit breaker delay. (See Datasheet)", 2 GND (power) "GND (Pin 2): Ground Pin.", 3 ON (in) "ON (Pin 3): ON Input Pin. The ON pin comparator has a low-to-high threshold of 1.3V with 80mV hysteresis and a glitch filter. When the ON pin is low, the LTC4210 is reset. When the ON pin goes high, the GATE turns on after (See Datasheet)", 4 GATE (out) "GATE Output Pin. This pin is the high side gate drive of an external N-channel MOSFET. An internal charge pump provides a 10µA pull-up current with Zener clamps to VCC and ground. (See Datasheet)", 5 SENSE (in) "SENSE (Pin 5): Current Limit Sense Input Pin. A sense resistor between the VCC and SENSE pins sets the analog current limit. In overload, the EA controls the external MOSFET gate to maintain the SENSE pin voltage at 50mV (See Datasheet)", 6 VCC (power) "Positive Supply Input Pin. The operating supply voltage range is between 2.7V to 7V. An undervoltage lockout (UVLO) circuit with a glitch filter resets the LTC4210 when a low supply voltage is detected. (See Datasheet)"

## LTC4210-1CS6#TRMPBF
designator U?
Hot Swap Controller, 2.7 to 16.5 V Vin, 6-pin SOT23 (S6-6), 0 to 70 degC, Pb-Free, Mini Tape and Reel; Manufacturer: Linear Technology; PartNumber: LTC4210-1CS6#TRMPBF; Active Limiting: yes; Circuit Breaker Accuracy(%): 12; Circuit Breaker Threshold: 50 mV; Circuit Breakers(#): 1; Extended Temp: C, I; Fast Comparator: no; In-Rush Current: Active; PackageVersion: Jun-10; PackageReference: S6-6; PackageDescription: 6-Pin Plastic TSOT-23, Body 2.9 x 1.63 mm, Pitch 0.95 mm; Supplier 1: Digi-Key; Supplier Part Number 1: LTC4210-1CS6#TRMPBFTR-ND; Supplier 2: Digi-Key; Supplier Part Number 2: LTC4210-1CS6#TRMPBFCT-ND; Supplier 3: Digi-Key; Supplier Part Number 3: LTC4210-1CS6#TRMPBFDKR-ND; Supplier 4: Farnell; Supplier Part Number 4: 1663911; Supplier 5: Newark; Supplier Part Number 5: 59M8274; Supplier 6: Newark; Supplier Part Number 6: 56M8737; Fault: no; Foldback: no; Packing: Mini Tape and Reel; Power Good: no; Reset: no; RoHS: TRUE; Vin Range: 2.7 to 16.5 V; Mounting Technology: Surface Mount; Code_JEDEC: MO-193; ComponentLink1Description: Manufacturer URL; ComponentLink1URL: http://www.linear.com/; ComponentLink2Description: Datasheet; ComponentLink2URL: http://cds.linear.com/docs/en/datasheet/421012f.pdf; ComponentLink3Description: Package Specification; ComponentLink3URL: http://cds.linear.com/docs/en/packaging/SOT_6_05-08-1636.pdf
footprint LT-S6-6-TSOT-23_N (SOT23, 6-Leads, Body 2.9x1.75mm, Pitch 0.95mm, IPC Medium Density)
footprint LT-S6-6-TSOT-23_L (SOT23, 6-Leads, Body 2.9x1.75mm, Pitch 0.95mm, IPC High Density)
footprint LT-S6-6-TSOT-23_M (SOT23, 6-Leads, Body 2.9x1.75mm, Pitch 0.95mm, IPC Low Density)
pins: 1 TIMER (in) "Timer Input Pin. An external capacitor CTIMER sets a 272.9ms/µF initial timing delay and a 21.7ms/µF circuit breaker delay. (See Datasheet)", 2 GND (power) "GND (Pin 2): Ground Pin.", 3 ON (in) "ON (Pin 3): ON Input Pin. The ON pin comparator has a low-to-high threshold of 1.3V with 80mV hysteresis and a glitch filter. When the ON pin is low, the LTC4210 is reset. When the ON pin goes high, the GATE turns on after (See Datasheet)", 4 GATE (out) "GATE Output Pin. This pin is the high side gate drive of an external N-channel MOSFET. An internal charge pump provides a 10µA pull-up current with Zener clamps to VCC and ground. (See Datasheet)", 5 SENSE (in) "SENSE (Pin 5): Current Limit Sense Input Pin. A sense resistor between the VCC and SENSE pins sets the analog current limit. In overload, the EA controls the external MOSFET gate to maintain the SENSE pin voltage at 50mV (See Datasheet)", 6 VCC (power) "Positive Supply Input Pin. The operating supply voltage range is between 2.7V to 7V. An undervoltage lockout (UVLO) circuit with a glitch filter resets the LTC4210 when a low supply voltage is detected. (See Datasheet)"

## LTC4210-1CS6#TRPBF
designator U?
Hot Swap Controller, 2.7 to 16.5 V Vin, 6-pin SOT23 (S6-6), 0 to 70 degC, Pb-Free, Tape and Reel; Manufacturer: Linear Technology; PartNumber: LTC4210-1CS6#TRPBF; Active Limiting: yes; Circuit Breaker Accuracy(%): 12; Circuit Breaker Threshold: 50 mV; Circuit Breakers(#): 1; Extended Temp: C, I; Fast Comparator: no; In-Rush Current: Active; PackageVersion: Jun-10; PackageReference: S6-6; PackageDescription: 6-Pin Plastic TSOT-23, Body 2.9 x 1.63 mm, Pitch 0.95 mm; Supplier 1: Digi-Key; Supplier Part Number 1: LTC4210-1CS6#TRPBF-ND; Supplier 2: Newark; Supplier Part Number 2: 56M8738; Fault: no; Foldback: no; Packing: Tape and Reel; Power Good: no; Reset: no; RoHS: TRUE; Vin Range: 2.7 to 16.5 V; Mounting Technology: Surface Mount; Code_JEDEC: MO-193; ComponentLink1Description: Manufacturer URL; ComponentLink1URL: http://www.linear.com/; ComponentLink2Description: Datasheet; ComponentLink2URL: http://cds.linear.com/docs/en/datasheet/421012f.pdf; ComponentLink3Description: Package Specification; ComponentLink3URL: http://cds.linear.com/docs/en/packaging/SOT_6_05-08-1636.pdf
footprint LT-S6-6-TSOT-23_N (SOT23, 6-Leads, Body 2.9x1.75mm, Pitch 0.95mm, IPC Medium Density)
footprint LT-S6-6-TSOT-23_L (SOT23, 6-Leads, Body 2.9x1.75mm, Pitch 0.95mm, IPC High Density)
footprint LT-S6-6-TSOT-23_M (SOT23, 6-Leads, Body 2.9x1.75mm, Pitch 0.95mm, IPC Low Density)
pins: 1 TIMER (in) "Timer Input Pin. An external capacitor CTIMER sets a 272.9ms/µF initial timing delay and a 21.7ms/µF circuit breaker delay. (See Datasheet)", 2 GND (power) "GND (Pin 2): Ground Pin.", 3 ON (in) "ON (Pin 3): ON Input Pin. The ON pin comparator has a low-to-high threshold of 1.3V with 80mV hysteresis and a glitch filter. When the ON pin is low, the LTC4210 is reset. When the ON pin goes high, the GATE turns on after (See Datasheet)", 4 GATE (out) "GATE Output Pin. This pin is the high side gate drive of an external N-channel MOSFET. An internal charge pump provides a 10µA pull-up current with Zener clamps to VCC and ground. (See Datasheet)", 5 SENSE (in) "SENSE (Pin 5): Current Limit Sense Input Pin. A sense resistor between the VCC and SENSE pins sets the analog current limit. In overload, the EA controls the external MOSFET gate to maintain the SENSE pin voltage at 50mV (See Datasheet)", 6 VCC (power) "Positive Supply Input Pin. The operating supply voltage range is between 2.7V to 7V. An undervoltage lockout (UVLO) circuit with a glitch filter resets the LTC4210 when a low supply voltage is detected. (See Datasheet)"

## LTC4210-1IS6
designator U?
Hot Swap Controller, 2.7 to 16.5 V Vin, 6-pin SOT23 (S6-6), -40 to 85 degC; Manufacturer: Linear Technology; PartNumber: LTC4210-1IS6; Active Limiting: yes; Circuit Breaker Accuracy(%): 12; Circuit Breaker Threshold: 50 mV; Circuit Breakers(#): 1; Extended Temp: C, I; Fast Comparator: no; In-Rush Current: Active; PackageVersion: Jun-10; PackageReference: S6-6; PackageDescription: 6-Pin Plastic TSOT-23, Body 2.9 x 1.63 mm, Pitch 0.95 mm; Fault: no; Foldback: no; Power Good: no; Reset: no; RoHS: FALSE; Vin Range: 2.7 to 16.5 V; Mounting Technology: Surface Mount; Code_JEDEC: MO-193; ComponentLink1Description: Manufacturer URL; ComponentLink1URL: http://www.linear.com/; ComponentLink2Description: Datasheet; ComponentLink2URL: http://cds.linear.com/docs/en/datasheet/421012f.pdf; ComponentLink3Description: Package Specification; ComponentLink3URL: http://cds.linear.com/docs/en/packaging/SOT_6_05-08-1636.pdf
footprint LT-S6-6-TSOT-23_N (SOT23, 6-Leads, Body 2.9x1.75mm, Pitch 0.95mm, IPC Medium Density)
footprint LT-S6-6-TSOT-23_L (SOT23, 6-Leads, Body 2.9x1.75mm, Pitch 0.95mm, IPC High Density)
footprint LT-S6-6-TSOT-23_M (SOT23, 6-Leads, Body 2.9x1.75mm, Pitch 0.95mm, IPC Low Density)
pins: 1 TIMER (in) "Timer Input Pin. An external capacitor CTIMER sets a 272.9ms/µF initial timing delay and a 21.7ms/µF circuit breaker delay. (See Datasheet)", 2 GND (power) "GND (Pin 2): Ground Pin.", 3 ON (in) "ON (Pin 3): ON Input Pin. The ON pin comparator has a low-to-high threshold of 1.3V with 80mV hysteresis and a glitch filter. When the ON pin is low, the LTC4210 is reset. When the ON pin goes high, the GATE turns on after (See Datasheet)", 4 GATE (out) "GATE Output Pin. This pin is the high side gate drive of an external N-channel MOSFET. An internal charge pump provides a 10µA pull-up current with Zener clamps to VCC and ground. (See Datasheet)", 5 SENSE (in) "SENSE (Pin 5): Current Limit Sense Input Pin. A sense resistor between the VCC and SENSE pins sets the analog current limit. In overload, the EA controls the external MOSFET gate to maintain the SENSE pin voltage at 50mV (See Datasheet)", 6 VCC (power) "Positive Supply Input Pin. The operating supply voltage range is between 2.7V to 7V. An undervoltage lockout (UVLO) circuit with a glitch filter resets the LTC4210 when a low supply voltage is detected. (See Datasheet)"